# Altium integrated library Maxim.IntLib: 2 symbols
Pins are listed as number, name and electrical type; pins without a type are passive.

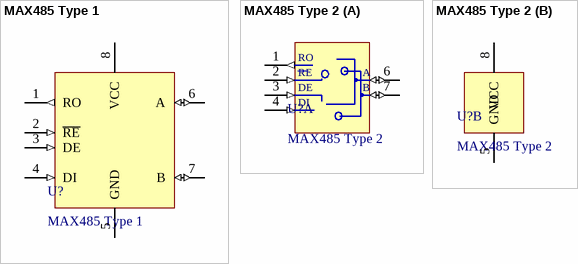
[diagram p0: symbols MAX485 Type 1 to MAX485 Type 2]

## MAX485 Type 1
designator U?
RS-485 Transceivers
footprint PDIP8 - MAX485
pins: 1 RO (out), 2 ~{RE} (in), 3 DE (in), 4 DI (in), 5 GND (power), 6 A (io), 7 B (io), 8 VCC (power)

## MAX485 Type 2
designator U?
RS-485 Transceivers
footprint PDIP8 - MAX485
part A pins: 1 RO (out), 2 ~{RE} (in), 3 DE (in), 4 DI (in), 6 A (io), 7 B (io)
part B pins: 5 GND (power), 8 VCC (power)
part A text: RE